# Altium footprint library HDMI_Standard_A_vertical.PcbLib: 1 footprints
Each footprint in its own frame and in the unit in brackets; x right, y up, seen from the top. Pads: shape width x height; smd on the part's side, far side on the other; paste and mask are expansions set on the pad; w line width, h text height; cw(c..) or ccw(c..) is an arc to the next point about the centre after c.
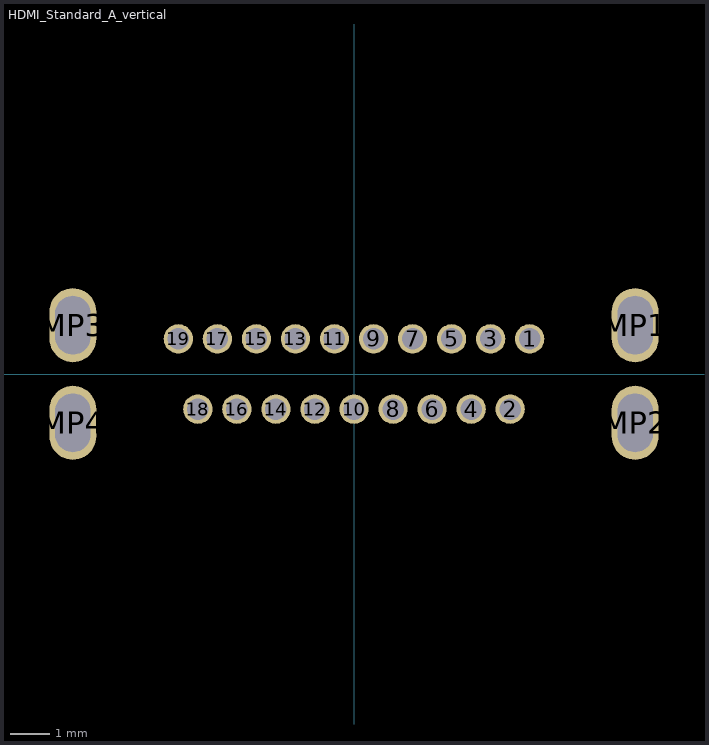
[diagram p0: the footprint, top view; thin cyan lines are the x and y axes]

## HDMI_Standard_A_vertical [mm]
pads (23):
  round 0.75 hole 0.55 unplated: 1(4.5,0.9) 2(4,-0.9) 3(3.5,0.9) 4(3,-0.9) 5(2.5,0.9) 6(2,-0.9) 7(1.5,0.9) 8(1,-0.9) 9(0.5,0.9) 10(0,-0.9) 11(-0.5,0.9) 12(-1,-0.9) 13(-1.5,0.9) 14(-2,-0.9) 15(-2.5,0.9) 16(-3,-0.9) 17(-3.5,0.9) 18(-4,-0.9) 19(-4.5,0.9)
  oval 1.2x1.9 hole 0.9 slot 1.5 at 90 deg unplated: MP1(7.2,1.25) MP2(7.2,-1.25) MP3(-7.2,1.25) MP4(-7.2,-1.25)